# EAGLE library part HM26?S (library TheMaker_con-subd)
SUB-D
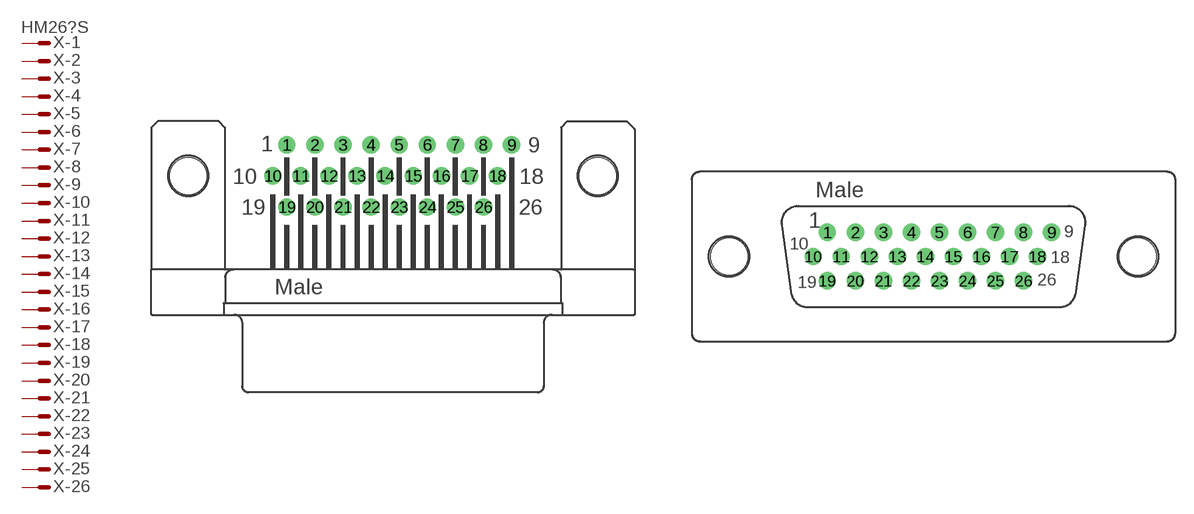
[diagram p49: symbol with the pads of HDM26H; footprints HDM26H, HDM26V]

Designator prefix X; gates -2=M -3=M -4=M -5=M -6=M -7=M -8=M -9=M -10=M -11=M -12=M -13=M -14=M -15=M -16=M -17=M -18=M -19=M -20=M -21=M -22=M -23=M -24=M -25=M -26=M -1=MV

## HM26HS (OC_FARNELL: unknown; OC_NEWARK: unknown)  [HDM26H]
1  -1:M  pas
2  -2:M  pas
3  -3:M  pas
4  -4:M  pas
5  -5:M  pas
6  -6:M  pas
7  -7:M  pas
8  -8:M  pas
9  -9:M  pas
10  -10:M  pas
11  -11:M  pas
12  -12:M  pas
13  -13:M  pas
14  -14:M  pas
15  -15:M  pas
16  -16:M  pas
17  -17:M  pas
18  -18:M  pas
19  -19:M  pas
20  -20:M  pas
21  -21:M  pas
22  -22:M  pas
23  -23:M  pas
24  -24:M  pas
25  -25:M  pas
26  -26:M  pas

## HM26VS (OC_FARNELL: unknown; OC_NEWARK: unknown)  [HDM26V]
Pads as for HDM26H

## Footprint HDM26H (pad centres in mm)
SUB-D
drill 0.9: 1 -8.639,2.54; 2 -6.353,2.54; 3 -4.067,2.54; 4 -1.781,2.54; 5 0.505,2.54; 6 2.791,2.54; 7 5.077,2.54; 8 7.363,2.54; 9 9.649,2.54; 10 -9.782,0; 11 -7.496,0; 12 -5.21,0; 13 -2.924,0; 14 -0.638,0; 15 1.648,0; 16 3.934,0; 17 6.22,0; 18 8.506,0; 19 -8.639,-2.54; 20 -6.353,-2.54; 21 -4.067,-2.54; 22 -1.781,-2.54; 23 0.505,-2.54; 24 2.791,-2.54; 25 5.077,-2.54; 26 7.363,-2.54
hole 3 at -16.65,0
hole 3 at 16.65,0

## Footprint HDM26V (pad centres in mm)
SUB-D
drill 0.9: 1 -8.658,1.98; 2 -6.372,1.98; 3 -4.086,1.98; 4 -1.8,1.98; 5 0.486,1.98; 6 2.772,1.98; 7 5.058,1.98; 8 7.344,1.98; 9 9.63,1.98; 10 -9.801,0; 11 -7.515,0; 12 -5.229,0; 13 -2.943,0; 14 -0.657,0; 15 1.629,0; 16 3.915,0; 17 6.201,0; 18 8.487,0; 19 -8.658,-1.98; 20 -6.372,-1.98; 21 -4.086,-1.98; 22 -1.8,-1.98; 23 0.486,-1.98; 24 2.772,-1.98; 25 5.058,-1.98; 26 7.344,-1.98
hole 3 at -16.65,0
hole 3 at 16.65,0